# Altium footprint library L26.PcbLib: 12 footprints
Each footprint in its own frame and in the unit in brackets; x right, y up, seen from the top. Pads: shape width x height; smd on the part's side, far side on the other; paste and mask are expansions set on the pad; w line width, h text height; cw(c..) or ccw(c..) is an arc to the next point about the centre after c.
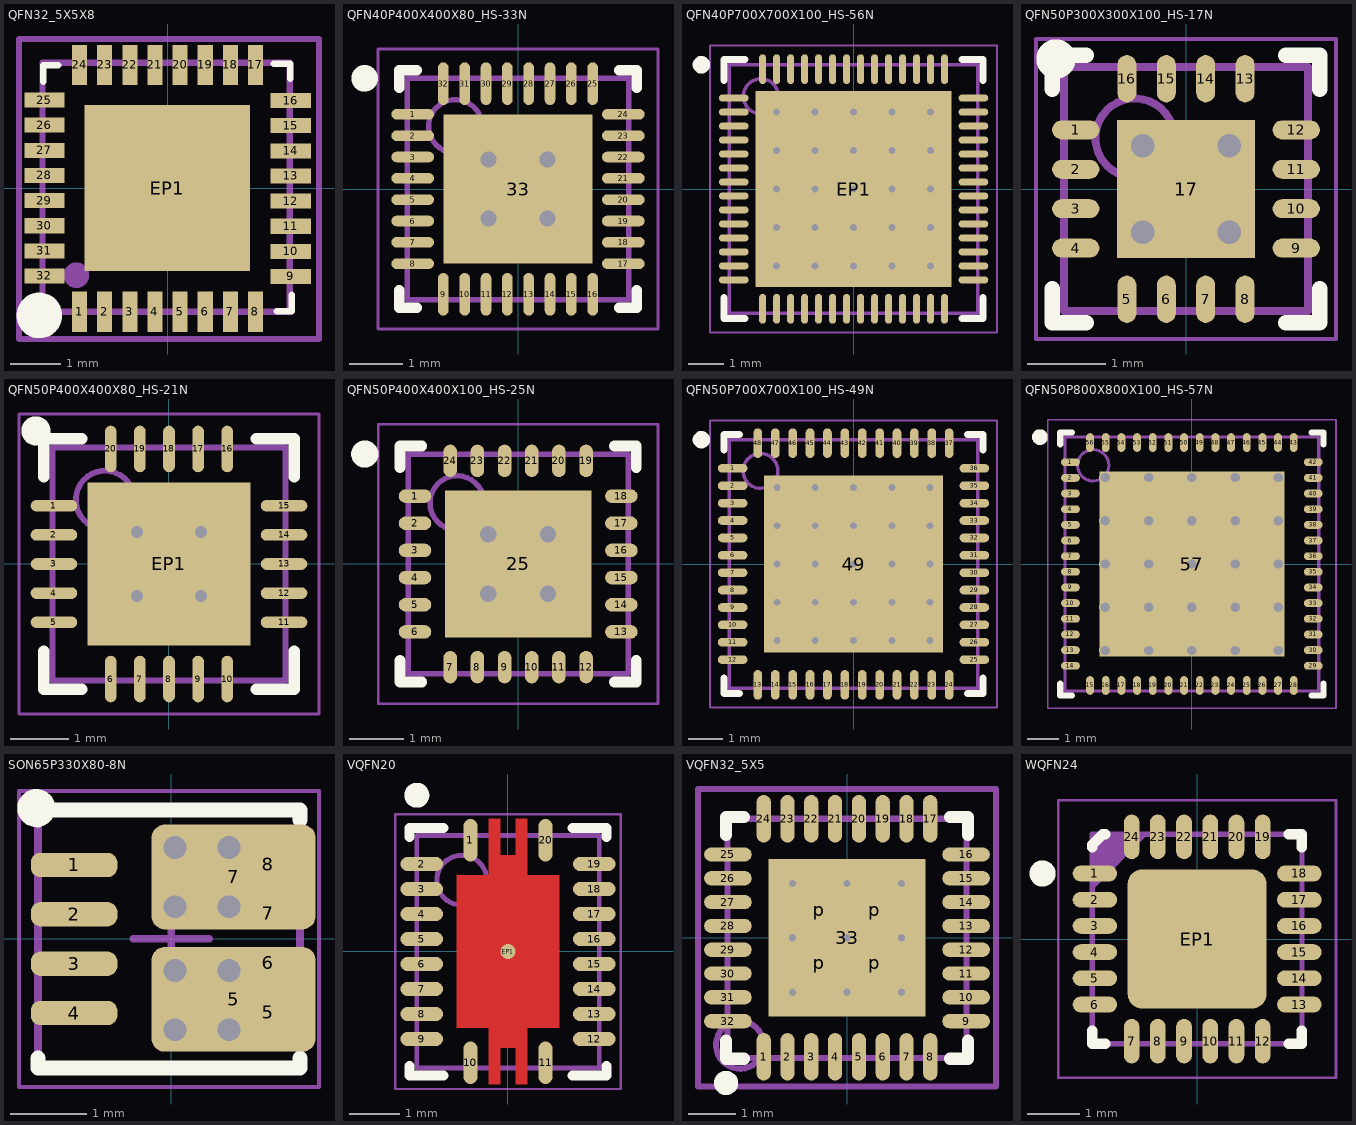
[diagram p0: the footprints below, top view; thin cyan lines are the x and y axes]

## QFN32_5X5X8 [mm]
pads (33):
  rect 0.3x0.8 smd: 1(-1.75,-2.455) 2(-1.25,-2.455) 3(-0.75,-2.455) 4(-0.25,-2.455) 5(0.25,-2.455) 6(0.75,-2.455) 7(1.25,-2.455) 8(1.75,-2.455) 17(1.75,2.455) 18(1.25,2.455) 19(0.75,2.455) 20(0.25,2.455) 21(-0.25,2.455) 22(-0.75,2.455) 23(-1.25,2.455) 24(-1.75,2.455)
  rect 0.8x0.3 smd: 9(2.45,-1.755) 10(2.45,-1.255) 11(2.45,-0.755) 12(2.45,-0.255) 13(2.45,0.245) 14(2.45,0.745) 15(2.45,1.245) 16(2.45,1.745) 25(-2.45,1.755) 26(-2.45,1.255) 27(-2.45,0.755) 28(-2.45,0.255) 29(-2.45,-0.245) 30(-2.45,-0.745) 31(-2.45,-1.245) 32(-2.45,-1.745)
  rect 3.3x3.3 smd paste-2.54: EP1(-0.004,0.003)
Top Overlay:
  circle w0.508: c-2.55,-2.53 r0.2
  lines w0.127: -2.475,2.12 -2.475,2.445 -2.175,2.445 ; 2.115,2.48 2.44,2.48 2.44,2.18 ; 2.175,-2.445 2.475,-2.445 2.475,-2.12
Top Paste:
  rectangle: -1.397,-1.27 -0.127,-0.127
  rectangle: 0.127,-1.27 1.397,-0.127
  rectangle: 0.127,0.127 1.397,1.27
  rectangle: -1.397,0.127 -0.127,1.27
Mechanical 13:
  circle w0.254: c-1.812,-1.729 r0.127
  lines w0.127: -2.487,2.498 2.428,2.498 2.428,-2.455 -2.487,-2.455 -2.487,2.498 ; -2.487,2.498 -2.487,2.498
Mechanical 15:
  lines w0.127: -0.381,0 0.381,0 ; 0,-0.381 0,0.381 ; -2.955,-2.999 3.014,-2.999 3.014,2.97 -2.955,2.97 -2.955,-2.999
Mechanical 17:
  text "'.Designator'" at -2.286,-1.27 h0.64
Mechanical 19:
  text "'.Comment'" at -2.286,-1.27 h0.64
3D body: height 0.89, standoff 0, extent -2.487,-2.455 2.428,2.498

## QFN40P400X400X80_HS-33N [mm] "QFN, 32-Leads, Body 4.00x4.00mm, Pitch 0.40mm, Thermal Pad 2.80x2.80mm, IPC Medium Density"
height 0.8
pads (33):
  oval 0.8x0.2 smd: 1(-1.975,1.4) 2(-1.975,1) 3(-1.975,0.6) 4(-1.975,0.2) 5(-1.975,-0.2) 6(-1.975,-0.6) 7(-1.975,-1) 8(-1.975,-1.4) 17(1.975,-1.4) 18(1.975,-1) 19(1.975,-0.6) 20(1.975,-0.2) 21(1.975,0.2) 22(1.975,0.6) 23(1.975,1) 24(1.975,1.4)
  oval 0.2x0.8 smd: 9(-1.4,-1.975) 10(-1,-1.975) 11(-0.6,-1.975) 12(-0.2,-1.975) 13(0.2,-1.975) 14(0.6,-1.975) 15(1,-1.975) 16(1.4,-1.975) 25(1.4,1.975) 26(1,1.975) 27(0.6,1.975) 28(0.2,1.975) 29(-0.2,1.975) 30(-0.6,1.975) 31(-1,1.975) 32(-1.4,1.975)
  rect 2.8x2.8 smd: 33(0,0)
via -0.55,0.55 diameter 0.6 hole 0.3
via 0.55,0.55 diameter 0.6 hole 0.3
via -0.55,-0.55 diameter 0.6 hole 0.3
via 0.55,-0.55 diameter 0.6 hole 0.3
Top Overlay:
  circle w0.25: c-2.875,2.075 r0.125
  lines w0.2: -2.225,-1.9 -2.225,-2.225 -1.9,-2.225 ; -2.225,1.9 -2.225,2.225 -1.9,2.225 ; 1.9,-2.225 2.225,-2.225 2.225,-1.9 ; 1.9,2.225 2.225,2.225 2.225,1.9
Mechanical 2:
  circle w0.1: c-1.175,1.175 r0.5
  lines w0.1: -2.075,-2.075 -2.075,2.075 2.075,2.075 2.075,-2.075 -2.075,-2.075
Mechanical 4:
  lines w0.05: -2.625,-2.625 -2.625,2.625 2.625,2.625 2.625,-2.625 -2.625,-2.625
  lines w0.1: -0.5,0 0.5,0 ; 0,-0.5 0,0.5
3D body "QFN40P400X400X80_HS-33N.step": height 0.8, standoff 0, extent -2.125,-2.125 2.125,2.125

## QFN40P700X700X100_HS-56N [mm] "QFN, 56-Leads, Body 7.00x7.00mm, Pitch 0.40mm, Thermal Pad 5.60x5.60mm, IPC Medium Density"
height 0.6
pads (57):
  oval 0.85x0.2 smd: 1(-3.425,2.6) 2(-3.425,2.2) 3(-3.425,1.8) 4(-3.425,1.4) 5(-3.425,1) 6(-3.425,0.6) 7(-3.425,0.2) 8(-3.425,-0.2) 9(-3.425,-0.6) 10(-3.425,-1) 11(-3.425,-1.4) 12(-3.425,-1.8) 13(-3.425,-2.2) 14(-3.425,-2.6) 29(3.425,-2.6) 30(3.425,-2.2) 31(3.425,-1.8) 32(3.425,-1.4) 33(3.425,-1) 34(3.425,-0.6) 35(3.425,-0.2) 36(3.425,0.2) 37(3.425,0.6) 38(3.425,1) 39(3.425,1.4) 40(3.425,1.8) 41(3.425,2.2) 42(3.425,2.6)
  oval 0.2x0.85 smd: 15(-2.6,-3.425) 16(-2.2,-3.425) 17(-1.8,-3.425) 18(-1.4,-3.425) 19(-1,-3.425) 20(-0.6,-3.425) 21(-0.2,-3.425) 22(0.2,-3.425) 23(0.6,-3.425) 24(1,-3.425) 25(1.4,-3.425) 26(1.8,-3.425) 27(2.2,-3.425) 28(2.6,-3.425) 43(2.6,3.425) 44(2.2,3.425) 45(1.8,3.425) 46(1.4,3.425) 47(1,3.425) 48(0.6,3.425) 49(0.2,3.425) 50(-0.2,3.425) 51(-0.6,3.425) 52(-1,3.425) 53(-1.4,3.425) 54(-1.8,3.425) 55(-2.2,3.425) 56(-2.6,3.425)
  rect 5.6x5.6 smd: EP1(0,0)
via 2.2,-2.2 diameter 0.5 hole 0.2
via 1.1,-2.2 diameter 0.5 hole 0.2
via 0,-2.2 diameter 0.5 hole 0.2
via -1.1,-2.2 diameter 0.5 hole 0.2
via -2.2,-2.2 diameter 0.5 hole 0.2
via 2.2,-1.1 diameter 0.5 hole 0.2
via 1.1,-1.1 diameter 0.5 hole 0.2
via 0,-1.1 diameter 0.5 hole 0.2
via -1.1,-1.1 diameter 0.5 hole 0.2
via -2.2,-1.1 diameter 0.5 hole 0.2
via 2.2,0 diameter 0.5 hole 0.2
via 1.1,0 diameter 0.5 hole 0.2
via 0,0 diameter 0.5 hole 0.2
via -1.1,0 diameter 0.5 hole 0.2
via -2.2,0 diameter 0.5 hole 0.2
via 2.2,1.1 diameter 0.5 hole 0.2
via 1.1,1.1 diameter 0.5 hole 0.2
via 0,1.1 diameter 0.5 hole 0.2
via -1.1,1.1 diameter 0.5 hole 0.2
via -2.2,1.1 diameter 0.5 hole 0.2
via 2.2,2.2 diameter 0.5 hole 0.2
via 1.1,2.2 diameter 0.5 hole 0.2
via 0,2.2 diameter 0.5 hole 0.2
via -1.1,2.2 diameter 0.5 hole 0.2
via -2.2,2.2 diameter 0.5 hole 0.2
Top Overlay:
  circle w0.25: c-4.35,3.55 r0.125
  lines w0.2: -3.7,-3.1 -3.7,-3.7 -3.1,-3.7 ; -3.7,3.1 -3.7,3.7 -3.1,3.7 ; 3.1,-3.7 3.7,-3.7 3.7,-3.1 ; 3.1,3.7 3.7,3.7 3.7,3.1
Mechanical 13:
  circle w0.1: c-2.65,2.65 r0.5
  lines w0.1: -3.55,-3.55 3.55,-3.55 3.55,3.55 -3.55,3.55 -3.55,-3.55
Mechanical 15:
  lines w0.05: -4.1,-4.1 4.1,-4.1 4.1,4.1 -4.1,4.1 -4.1,-4.1
  lines w0.1: -0.5,0 0.5,0 ; 0,-0.5 0,0.5
3D body: height 0.6, standoff 0.05, extent -3.55,-3.55 3.55,3.55

## QFN50P300X300X100_HS-17N [mm] "QFN, 16-Leads, Body 3.00x3.00mm, Pitch 0.50mm, Thermal Pad 1.75x1.75mm, IPC Medium Density"
height 1
pads (17):
  oval 0.6x0.24 smd: 1(-1.4,0.75) 2(-1.4,0.25) 3(-1.4,-0.25) 4(-1.4,-0.75) 9(1.4,-0.75) 10(1.4,-0.25) 11(1.4,0.25) 12(1.4,0.75)
  oval 0.24x0.6 smd: 5(-0.75,-1.4) 6(-0.25,-1.4) 7(0.25,-1.4) 8(0.75,-1.4) 13(0.75,1.4) 14(0.25,1.4) 15(-0.25,1.4) 16(-0.75,1.4)
  rect 1.75x1.75 smd: 17(0,0)
via 0.55,-0.55 diameter 0.6 hole 0.3
via -0.55,-0.55 diameter 0.6 hole 0.3
via 0.55,0.55 diameter 0.6 hole 0.3
via -0.55,0.55 diameter 0.6 hole 0.3
Top Overlay:
  circle w0.25: c-1.651,1.651 r0.125
  lines w0.2: -1.7,-1.27 -1.7,-1.7 -1.27,-1.7 ; -1.7,1.27 -1.7,1.7 -1.27,1.7 ; 1.27,-1.7 1.7,-1.7 1.7,-1.27 ; 1.27,1.7 1.7,1.7 1.7,1.27
Mechanical 13:
  circle w0.1: c-0.65,0.65 r0.5
  lines w0.1: -1.55,-1.55 1.55,-1.55 1.55,1.55 -1.55,1.55 -1.55,-1.55
  text "'.Designator'" at -1.4,-0.25 h0.25
Mechanical 15:
  lines w0.05: -1.905,-1.905 1.905,-1.905 1.905,1.905 -1.905,1.905 -1.905,-1.905
  lines w0.1: -0.5,0 0.5,0 ; 0,-0.5 0,0.5
3D body "QFN50P300X300X100_HS-17N.step": height 1, standoff 0, extent -1.6,-1.6 1.6,1.6

## QFN50P400X400X80_HS-21N [mm] "QFN, 20-Leads, Body 4.00x4.00mm, Pitch 0.50mm, Thermal Pad 2.80x2.80mm, IPC Medium Density"
height 0.8
pads (21):
  oval 0.8x0.2 smd: 1(-1.975,1) 2(-1.975,0.5) 3(-1.975,0) 4(-1.975,-0.5) 5(-1.975,-1) 11(1.975,-1) 12(1.975,-0.5) 13(1.975,0) 14(1.975,0.5) 15(1.975,1)
  oval 0.2x0.8 smd: 6(-1,-1.975) 7(-0.5,-1.975) 8(0,-1.975) 9(0.5,-1.975) 10(1,-1.975) 16(1,1.975) 17(0.5,1.975) 18(0,1.975) 19(-0.5,1.975) 20(-1,1.975)
  rect 2.8x2.8 smd: EP1(0,0)
via 0.55,-0.55 diameter 0.5 hole 0.2
via -0.55,-0.55 diameter 0.5 hole 0.2
via 0.55,0.55 diameter 0.5 hole 0.2
via -0.55,0.55 diameter 0.5 hole 0.2
Top Overlay:
  circle w0.25: c-2.286,2.286 r0.125
  lines w0.2: -2.15,-1.5 -2.15,-2.15 -1.5,-2.15 ; -2.15,1.5 -2.15,2.15 -1.5,2.15 ; 1.5,-2.15 2.15,-2.15 2.15,-1.5 ; 1.5,2.15 2.15,2.15 2.15,1.5
Mechanical 13:
  circle w0.1: c-1.1,1.1 r0.5
  lines w0.1: -2,-2 2,-2 2,2 -2,2 -2,-2
Mechanical 15:
  lines w0.05: -2.575,-2.575 2.575,-2.575 2.575,2.575 -2.575,2.575 -2.575,-2.575
  lines w0.1: -0.5,0 0.5,0 ; 0,-0.5 0,0.5
3D body "QFN50P400X400X80_HS-21N.step": height 0.8, standoff 0, extent -2.05,-2.05 2.05,2.05

## QFN50P400X400X100_HS-25N [mm] "QFN, 24-Leads, Body 4.00x4.00mm, Pitch 0.50mm, Thermal Pad 2.70x2.70mm, IPC Medium Density"
height 1
pads (25):
  oval 0.6x0.25 smd: 1(-1.9,1.25) 2(-1.9,0.75) 3(-1.9,0.25) 4(-1.9,-0.25) 5(-1.9,-0.75) 6(-1.9,-1.25) 13(1.9,-1.25) 14(1.9,-0.75) 15(1.9,-0.25) 16(1.9,0.25) 17(1.9,0.75) 18(1.9,1.25)
  oval 0.25x0.6 smd: 7(-1.25,-1.9) 8(-0.75,-1.9) 9(-0.25,-1.9) 10(0.25,-1.9) 11(0.75,-1.9) 12(1.25,-1.9) 19(1.25,1.9) 20(0.75,1.9) 21(0.25,1.9) 22(-0.25,1.9) 23(-0.75,1.9) 24(-1.25,1.9)
  rect 2.7x2.7 smd: 25(0,0)
via 0.55,-0.55 diameter 0.6 hole 0.3
via -0.55,-0.55 diameter 0.6 hole 0.3
via 0.55,0.55 diameter 0.6 hole 0.3
via -0.55,0.55 diameter 0.6 hole 0.3
Top Overlay:
  circle w0.25: c-2.825,2.025 r0.125
  lines w0.2: -2.175,-1.775 -2.175,-2.175 -1.775,-2.175 ; -2.175,1.775 -2.175,2.175 -1.775,2.175 ; 1.775,-2.175 2.175,-2.175 2.175,-1.775 ; 1.775,2.175 2.175,2.175 2.175,1.775
Mechanical 2:
  circle w0.1: c-1.125,1.125 r0.5
  lines w0.1: -2.025,-2.025 2.025,-2.025 2.025,2.025 -2.025,2.025 -2.025,-2.025
Mechanical 4:
  lines w0.05: -2.575,-2.575 2.575,-2.575 2.575,2.575 -2.575,2.575 -2.575,-2.575
  lines w0.1: -0.5,0 0.5,0 ; 0,-0.5 0,0.5
3D body "QFN50P400X400X100_HS-25N.step": height 1, standoff 0, extent -2.075,-2.075 2.075,2.075

## QFN50P700X700X100_HS-49N [mm] "QFN, 48-Leads, Body 7.00x7.00mm, Pitch 0.50mm, Thermal Pad 5.15x5.10mm, IPC Medium Density"
height 1
pads (49):
  oval 0.85x0.25 smd mask+0.07: 1(-3.475,2.75) 2(-3.475,2.25) 3(-3.475,1.75) 4(-3.475,1.25) 5(-3.475,0.75) 6(-3.475,0.25) 7(-3.475,-0.25) 8(-3.475,-0.75) 9(-3.475,-1.25) 10(-3.475,-1.75) 11(-3.475,-2.25) 12(-3.475,-2.75) 25(3.475,-2.75) 26(3.475,-2.25) 27(3.475,-1.75) 28(3.475,-1.25) 29(3.475,-0.75) 30(3.475,-0.25) 31(3.475,0.25) 32(3.475,0.75) 33(3.475,1.25) 34(3.475,1.75) 35(3.475,2.25) 36(3.475,2.75)
  oval 0.25x0.85 smd mask+0.07: 13(-2.75,-3.475) 14(-2.25,-3.475) 15(-1.75,-3.475) 16(-1.25,-3.475) 17(-0.75,-3.475) 18(-0.25,-3.475) 19(0.25,-3.475) 20(0.75,-3.475) 21(1.25,-3.475) 22(1.75,-3.475) 23(2.25,-3.475) 24(2.75,-3.475) 37(2.75,3.475) 38(2.25,3.475) 39(1.75,3.475) 40(1.25,3.475) 41(0.75,3.475) 42(0.25,3.475) 43(-0.25,3.475) 44(-0.75,3.475) 45(-1.25,3.475) 46(-1.75,3.475) 47(-2.25,3.475) 48(-2.75,3.475)
  rect 5.15x5.1 smd paste-4 mask+0.07: 49(0,0)
via 2.2,-2.2 diameter 0.5 hole 0.2
via 1.1,-2.2 diameter 0.5 hole 0.2
via 0,-2.2 diameter 0.5 hole 0.2
via -1.1,-2.2 diameter 0.5 hole 0.2
via -2.2,-2.2 diameter 0.5 hole 0.2
via 2.2,-1.1 diameter 0.5 hole 0.2
via 1.1,-1.1 diameter 0.5 hole 0.2
via 0,-1.1 diameter 0.5 hole 0.2
via -1.1,-1.1 diameter 0.5 hole 0.2
via -2.2,-1.1 diameter 0.5 hole 0.2
via 2.2,0 diameter 0.5 hole 0.2
via 1.1,0 diameter 0.5 hole 0.2
via 0,0 diameter 0.5 hole 0.2
via -1.1,0 diameter 0.5 hole 0.2
via -2.2,0 diameter 0.5 hole 0.2
via 2.2,1.1 diameter 0.5 hole 0.2
via 1.1,1.1 diameter 0.5 hole 0.2
via 0,1.1 diameter 0.5 hole 0.2
via -1.1,1.1 diameter 0.5 hole 0.2
via -2.2,1.1 diameter 0.5 hole 0.2
via 2.2,2.2 diameter 0.5 hole 0.2
via 1.1,2.2 diameter 0.5 hole 0.2
via 0,2.2 diameter 0.5 hole 0.2
via -1.1,2.2 diameter 0.5 hole 0.2
via -2.2,2.2 diameter 0.5 hole 0.2
Top Overlay:
  circle w0.25: c-4.375,3.575 r0.125
  lines w0.2: -3.725,-3.275 -3.725,-3.725 -3.275,-3.725 ; -3.725,3.275 -3.725,3.725 -3.275,3.725 ; 3.275,-3.725 3.725,-3.725 3.725,-3.275 ; 3.275,3.725 3.725,3.725 3.725,3.275
Top Paste:
  region: 0.725,-1.025 -0.725,-1.025 -0.725,-2.475 0.725,-2.475
  region: 1.025,0.725 1.025,-0.725 2.475,-0.725 2.475,0.725
  region: -1.025,-0.725 -1.025,0.725 -2.475,0.725 -2.475,-0.725
  region: -1.025,1.025 -1.025,2.475 -2.475,2.475 -2.475,1.025
  region: 1.025,-1.025 1.025,-2.475 2.475,-2.475 2.475,-1.025
  region: -1.025,-1.025 -2.475,-1.025 -2.475,-2.475 -1.025,-2.475
  rectangle: -0.725,-0.725 0.725,0.725
  rectangle: -0.725,1.025 0.725,2.475
  rectangle: 1.025,1.025 2.475,2.475
Mechanical 13:
  circle w0.1: c-2.675,2.675 r0.5
  lines w0.1: -3.575,-3.575 3.575,-3.575 3.575,3.575 -3.575,3.575 -3.575,-3.575
Mechanical 15:
  lines w0.05: -4.125,-4.125 4.125,-4.125 4.125,4.125 -4.125,4.125 -4.125,-4.125
  lines w0.1: -0.5,0 0.5,0 ; 0,-0.5 0,0.5
3D body "QFN50P700X700X100_HS-49N.step": height 1, standoff 0, extent -3.655,-3.655 3.655,3.655

## QFN50P800X800X100_HS-57N [mm] "QFN, 56-Leads, Body 8.00x8.00mm, Pitch 0.50mm, Thermal Pad 5.90x5.90mm, IPC Medium Density"
height 1
pads (57):
  oval 0.6x0.25 smd paste+0 mask+0.07: 1(-3.875,3.25) 2(-3.875,2.75) 3(-3.875,2.25) 4(-3.875,1.75) 5(-3.875,1.25) 6(-3.875,0.75) 7(-3.875,0.25) 8(-3.875,-0.25) 9(-3.875,-0.75) 10(-3.875,-1.25) 11(-3.875,-1.75) 12(-3.875,-2.25) 13(-3.875,-2.75) 14(-3.875,-3.25) 29(3.875,-3.25) 30(3.875,-2.75) 31(3.875,-2.25) 32(3.875,-1.75) 33(3.875,-1.25) 34(3.875,-0.75) 35(3.875,-0.25) 36(3.875,0.25) 37(3.875,0.75) 38(3.875,1.25) 39(3.875,1.75) 40(3.875,2.25) 41(3.875,2.75) 42(3.875,3.25)
  oval 0.25x0.6 smd paste+0 mask+0.07: 15(-3.25,-3.875) 16(-2.75,-3.875) 17(-2.25,-3.875) 18(-1.75,-3.875) 19(-1.25,-3.875) 20(-0.75,-3.875) 21(-0.25,-3.875) 22(0.25,-3.875) 23(0.75,-3.875) 24(1.25,-3.875) 25(1.75,-3.875) 26(2.25,-3.875) 27(2.75,-3.875) 28(3.25,-3.875) 43(3.25,3.875) 44(2.75,3.875) 45(2.25,3.875) 46(1.75,3.875) 47(1.25,3.875) 48(0.75,3.875) 49(0.25,3.875) 50(-0.25,3.875) 51(-0.75,3.875) 52(-1.25,3.875) 53(-1.75,3.875) 54(-2.25,3.875) 55(-2.75,3.875) 56(-3.25,3.875)
  rect 5.9x5.9 smd paste-10 mask-10: 57(0,0)
via -2.76,2.76 diameter 0.4 hole 0.3
via 2.76,2.76 diameter 0.4 hole 0.3
via 2.76,-2.76 diameter 0.4 hole 0.3
via -2.76,-2.76 diameter 0.4 hole 0.3
via 1.38,-2.76 diameter 0.4 hole 0.3
via 0,-2.76 diameter 0.4 hole 0.3
via -1.38,-2.76 diameter 0.4 hole 0.3
via 2.76,-1.38 diameter 0.4 hole 0.3
via 1.38,-1.38 diameter 0.4 hole 0.3
via 0,-1.38 diameter 0.4 hole 0.3
via -1.38,-1.38 diameter 0.4 hole 0.3
via -2.76,-1.38 diameter 0.4 hole 0.3
via 2.76,0 diameter 0.4 hole 0.3
via 1.38,0 diameter 0.4 hole 0.3
via 0,0 diameter 0.4 hole 0.3
via -1.38,0 diameter 0.4 hole 0.3
via -2.76,0 diameter 0.4 hole 0.3
via 2.76,1.38 diameter 0.4 hole 0.3
via 1.38,1.38 diameter 0.4 hole 0.3
via 0,1.38 diameter 0.4 hole 0.3
via -1.38,1.38 diameter 0.4 hole 0.3
via -2.76,1.38 diameter 0.4 hole 0.3
via 1.38,2.76 diameter 0.4 hole 0.3
via 0,2.76 diameter 0.4 hole 0.3
via -1.38,2.76 diameter 0.4 hole 0.3
Top Overlay:
  circle w0.25: c-4.85,4.05 r0.125
  lines w0.2: -4.2,-3.825 -4.2,-4.2 -3.825,-4.2 ; -4.2,3.825 -4.2,4.2 -3.825,4.2 ; 3.825,-4.2 4.2,-4.2 4.2,-3.825 ; 3.825,4.2 4.2,4.2 4.2,3.825
Top Paste:
  rectangle: -2.66,1.48 -1.48,2.66
  rectangle: -1.28,1.48 -0.1,2.66
  rectangle: 0.1,1.48 1.28,2.66
  rectangle: 1.48,1.48 2.66,2.66
  rectangle: 1.48,0.1 2.66,1.28
  rectangle: 0.1,0.1 1.28,1.28
  rectangle: -1.28,0.1 -0.1,1.28
  rectangle: -2.66,0.1 -1.48,1.28
  rectangle: 1.48,-1.28 2.66,-0.1
  rectangle: 0.1,-1.28 1.28,-0.1
  rectangle: -1.28,-1.28 -0.1,-0.1
  rectangle: -2.66,-1.28 -1.48,-0.1
  rectangle: 1.48,-2.66 2.66,-1.48
  rectangle: 0.1,-2.66 1.28,-1.48
  rectangle: -1.28,-2.66 -0.1,-1.48
  rectangle: -2.66,-2.66 -1.48,-1.48
Top Solder:
  rectangle: -2.96,-2.96 2.96,2.96
Mechanical 2:
  circle w0.1: c-3.15,3.15 r0.5
  lines w0.1: -4.05,-4.05 4.05,-4.05 4.05,4.05 -4.05,4.05 -4.05,-4.05
Mechanical 4:
  lines w0.05: -4.6,-4.6 4.6,-4.6 4.6,4.6 -4.6,4.6 -4.6,-4.6
  lines w0.1: -0.5,0 0.5,0 ; 0,-0.5 0,0.5
3D body "QFN50P800X800X100_HS-57N.step": height 1, standoff 0, extent -4.1,-4.1 4.1,4.1

## SON65P330X80-8N [mm] "SON, 8-Leads, Body 3.30x3.30mm, Pitch 0.65mm, IPC Medium Density"
height 0.8
pads (10):
  rrect80% 1.14x0.32 smd mask+0: 1(-1.28,0.97) 2(-1.28,0.32) 3(-1.28,-0.33) 4(-1.28,-0.98)
  rrect25% 2.16x1.38 smd paste-100 mask-100: 5(0.82,-0.8) 7(0.82,0.811)
  rrect50% 1.14x0.32 smd mask-100: 5(1.28,-0.969) 6(1.28,-0.319) 7(1.28,0.331) 8(1.28,0.981)
via 0.05,-0.42 diameter 0.5 hole 0.3
via 0.05,-1.2 diameter 0.5 hole 0.3
via 0.76,-0.42 diameter 0.5 hole 0.3
via 0.76,-1.2 diameter 0.5 hole 0.3
via 0.76,1.2 diameter 0.5 hole 0.3
via 0.76,0.42 diameter 0.5 hole 0.3
via 0.05,1.2 diameter 0.5 hole 0.3
via 0.05,0.42 diameter 0.5 hole 0.3
Top Layer:
  region: -0.08,-1.17
  region: -0.08,1.17
Top Overlay:
  circle w0.25: c-1.776,1.717 r0.125
  lines w0.2: -1.755,-1.575 -1.755,-1.706 1.687,-1.706 ; -1.755,1.565 -1.755,1.695 1.695,1.695 ; 0.24,-1.706 1.695,-1.706 1.695,-1.575 ; 0.24,1.695 1.695,1.695 ; 1.695,1.565 1.695,1.695
Top Solder:
  region: -0.21,-1.4 -0.21,-1.41 -0.202,-1.428 -0.188,-1.442 -0.17,-1.45 -0.16,-1.45 1.4,-1.45 1.41,-1.45 1.428,-1.442 1.442,-1.428 1.45,-1.41 1.45,-1.4 1.45,-1.19 1.451,-1.18 1.458,-1.162 1.472,-1.148 1.49,-1.141 1.5,-1.14 1.8,-1.14 1.81,-1.14 1.828,-1.132 1.842,-1.118 1.85,-1.1 1.85,-1.09 1.85,-0.87 1.85,-0.86 1.842,-0.842 1.828,-0.828 1.81,-0.82 1.8,-0.82 1.5,-0.82 1.49,-0.819 1.472,-0.812 1.458,-0.798 1.451,-0.78 1.45,-0.77 1.45,-0.54 1.451,-0.53 1.458,-0.512 1.472,-0.498 1.49,-0.491 1.5,-0.49 1.8,-0.49 1.81,-0.49 1.828,-0.482 1.842,-0.468 1.85,-0.45 1.85,-0.44 1.85,-0.22 1.85,-0.21 1.842,-0.192 1.828,-0.178 1.81,-0.17 1.8,-0.17 -0.16,-0.17 -0.17,-0.17 -0.188,-0.178 -0.202,-0.192 -0.21,-0.21 -0.21,-0.22
  region: -0.21,1.4 -0.21,1.41 -0.202,1.428 -0.188,1.442 -0.17,1.45 -0.16,1.45 1.4,1.45 1.41,1.45 1.428,1.442 1.442,1.428 1.45,1.41 1.45,1.4 1.45,1.19 1.451,1.18 1.458,1.162 1.472,1.148 1.49,1.141 1.5,1.14 1.8,1.14 1.81,1.14 1.828,1.132 1.842,1.118 1.85,1.1 1.85,1.09 1.85,0.87 1.85,0.86 1.842,0.842 1.828,0.828 1.81,0.82 1.8,0.82 1.5,0.82 1.49,0.819 1.472,0.812 1.458,0.798 1.451,0.78 1.45,0.77 1.45,0.54 1.451,0.53 1.458,0.512 1.472,0.498 1.49,0.491 1.5,0.49 1.8,0.49 1.81,0.49 1.828,0.482 1.842,0.468 1.85,0.45 1.85,0.44 1.85,0.22 1.85,0.21 1.842,0.192 1.828,0.178 1.81,0.17 1.8,0.17 -0.16,0.17 -0.17,0.17 -0.188,0.178 -0.202,0.192 -0.21,0.21 -0.21,0.22
  lines w0.01: 1.45,0.49 1.45,0.82
Mechanical 2:
  circle w0.1: c0.795,0.795 r0.5
  lines w0.1: -1.755,-1.706 -1.755,1.695 1.695,1.695 1.695,-1.706 -1.755,-1.706
Mechanical 4:
  lines w0.05: -2.005,-1.956 -2.005,1.944 1.945,1.944 1.945,-1.956 -2.005,-1.956
  lines w0.1: -0.5,0 0.5,0 ; 0,-0.5 0,0.5
3D body "User Library-TDFN-8-EP_3x3mm.step": height -1.7, standoff -2.7, extent -1.68,-1.68 1.68,1.68

## VQFN20 [mm]
pads (21):
  oval 0.28x0.85 smd paste-0.025 mask+0.07: 1(-0.75,2.225) 10(-0.75,-2.225)
  oval 0.85x0.28 smd paste-0.025 mask+0.07: 2(-1.725,1.75) 3(-1.725,1.25) 8(-1.725,-1.25) 13(1.725,-1.25) 17(1.725,0.75) 18(1.725,1.25) 19(1.725,1.75)
  oval 0.85x0.28 smd paste-0.025 mask+0: 4(-1.725,0.75) 5(-1.725,0.25) 6(-1.725,-0.25) 7(-1.725,-0.75) 9(-1.725,-1.75) 12(1.725,-1.75) 14(1.725,-0.75) 15(1.725,-0.25) 16(1.725,0.25)
  oval 0.28x0.85 smd paste-0.025 mask+0: 11(0.75,-2.225) 20(0.75,2.225)
  round 0.3 smd paste-0.15 mask+0: EP1(0,0)
Top Layer:
  region: 0.16,2.65 0.16,1.925 -0.16,1.925 -0.16,2.65 -0.39,2.65 -0.39,1.525 -1.025,1.525 -1.025,-1.525 -0.39,-1.525 -0.39,-2.65 -0.16,-2.65 -0.16,-1.925 0.16,-1.925 0.16,-2.65 0.39,-2.65 0.39,-1.525 1.025,-1.525 1.025,1.525 0.39,1.525 0.39,2.65
Top Overlay:
  circle w0.25: c-1.825,3.125 r0.125
  lines w0.2: -1.975,-2.29 -1.975,-2.475 -1.29,-2.475 ; -1.975,2.29 -1.975,2.475 -1.29,2.475 ; 1.29,-2.475 1.975,-2.475 1.975,-2.29 ; 1.29,2.475 1.975,2.475 1.975,2.29
Top Paste:
  region: 0.15,1.47 0.15,0.15 0.97,0.15 0.97,1.47
  region: 0.97,-1.47 0.97,-0.15 0.15,-0.15 0.15,-1.47
  region: -0.15,-1.47 -0.15,-0.15 -0.97,-0.15 -0.97,-1.47
  region: -0.97,1.47 -0.97,0.15 -0.15,0.15 -0.15,1.47
  region: 0.39,-2.625 0.39,-1.725 0.16,-1.725 0.16,-2.625
  region: 0.16,2.625 0.16,1.725 0.39,1.725 0.39,2.625
  region: -0.16,-2.625 -0.16,-1.725 -0.39,-1.725 -0.39,-2.625
  region: -0.39,2.625 -0.39,1.725 -0.16,1.725 -0.16,2.625
Mechanical 14:
  circle w0.1: c-0.925,1.425 r0.5
  lines w0.1: -1.825,-2.325 -1.825,2.325 1.825,2.325 1.825,-2.325 -1.825,-2.325
Mechanical 15:
  lines w0.05: -2.25,-2.75 -2.25,2.75 2.25,2.75 2.25,-2.75 -2.25,-2.75
  lines w0.1: -0.5,0 0.5,0 ; 0,-0.5 0,0.5
3D body "User Library-20-VQFN (3_5x4_5)-2.STEP": height 0.85, standoff -0.05, extent -1.76,-2.26 1.76,2.26

## VQFN32_5X5 [mm]
pads (37):
  oval 0.3x1 smd: 1(-1.75,-2.5) 2(-1.25,-2.5) 3(-0.75,-2.5) 4(-0.25,-2.5) 5(0.25,-2.5) 6(0.75,-2.5) 7(1.25,-2.5) 8(1.75,-2.5) 17(1.75,2.5) 18(1.25,2.5) 19(0.75,2.5) 20(0.25,2.5) 21(-0.25,2.5) 22(-0.75,2.5) 23(-1.25,2.5) 24(-1.75,2.5)
  oval 1x0.3 smd: 9(2.5,-1.75) 10(2.5,-1.25) 11(2.5,-0.75) 12(2.5,-0.25) 13(2.5,0.25) 14(2.5,0.75) 15(2.5,1.25) 16(2.5,1.75) 25(-2.5,1.75) 26(-2.5,1.25) 27(-2.5,0.75) 28(-2.5,0.25) 29(-2.5,-0.25) 30(-2.5,-0.75) 31(-2.5,-1.25) 32(-2.5,-1.75)
  rect 3.3x3.3 smd paste-3.302: 33(0,0)
  rect 0.762x0.762 on Top Paste: p(-0.584,-0.559) p(-0.584,0.559) p(0.584,-0.559) p(0.584,0.559)
via 0,0 diameter 0.508 hole 0.15
via 0,1.143 diameter 0.508 hole 0.15
via 1.143,1.143 diameter 0.508 hole 0.15
via 1.143,-1.143 diameter 0.508 hole 0.15
via 0,-1.143 diameter 0.508 hole 0.15
via -1.143,-1.143 diameter 0.508 hole 0.15
via -1.143,0 diameter 0.508 hole 0.15
via -1.143,1.143 diameter 0.508 hole 0.15
via 1.143,0 diameter 0.508 hole 0.15
Top Overlay:
  circle w0.254: c-2.54,-3.048 r0.127
  lines w0.254: -2.54,-2.159 -2.54,-2.54 -2.159,-2.54 ; -2.54,2.159 -2.54,2.54 -2.159,2.54 ; 2.159,-2.54 2.54,-2.54 2.54,-2.159 ; 2.159,2.54 2.54,2.54 2.54,2.159
Mechanical 13:
  lines w0.127: -2.51,-2.52 2.51,-2.52 2.51,2.5 -2.51,2.5 -2.51,-2.52
Mechanical 15:
  circle w0.127: c-2.25,-2.25 r0.5
  lines w0.127: -3.125,-3.125 -3.125,3.125 3.125,3.125 3.125,-3.125 -3.125,-3.125
Mechanical 17:
  text ".Designator" at -1.875,-0.5 h1.02
Mechanical 19:
  text "'.Comment'" at -2.794,-0.508 h1.27
3D body "User Library-qfn32-5x5.step": height 0.8, standoff 0, extent -2.51,-2.52 2.51,2.5

## WQFN24 [mm]
pads (25):
  oval 0.85x0.3 smd mask+0: 1(-1.95,1.25) 13(1.95,-1.25) 14(1.95,-0.75) 15(1.95,-0.25) 16(1.95,0.25) 17(1.95,0.75) 18(1.95,1.25)
  oval 0.85x0.3 smd mask+0.05: 2(-1.95,0.75) 3(-1.95,0.25) 4(-1.95,-0.25) 5(-1.95,-0.75) 6(-1.95,-1.25)
  oval 0.3x0.85 smd mask+0.05: 7(-1.25,-1.95) 10(0.25,-1.95) 11(0.75,-1.95) 12(1.25,-1.95) 21(0.25,1.95) 22(-0.25,1.95) 24(-1.25,1.95)
  oval 0.3x0.85 smd mask+0: 8(-0.75,-1.95) 9(-0.25,-1.95) 19(1.25,1.95) 20(0.75,1.95) 23(-0.75,1.95)
  rrect20% 2.65x2.65 smd mask+0.05: EP1(0,0)
Top Overlay:
  circle w0.25: c-2.95,1.25 r0.125
  lines w0.2: -2,-1.75 -2,-2 -1.75,-2 ; -2,1.75 -2,1.8 -1.8,2 -1.75,2 ; 1.75,-2 2,-2 2,-1.75 ; 1.75,2 2,2 2,1.75
Mechanical 14:
  lines w0.1: -2,1 -1,2 ; -2,1.1 -1.1,2 ; -2,1.2 -1.2,2 ; -2,1.3 -1.3,2 ; -2,1.4 -1.4,2 ; -2,1.5 -1.5,2 ; -2,1.6 -1.6,2 ; -2,1.7 -1.7,2 ; -2,1.8 -1.8,2 ; -2,1.9 -1.9,2 ; -2,-2 2,-2 2,2 -2,2 -2,-2
Mechanical 15:
  circle w0.05: c0,0 r0.35
  lines w0.05: -0.5,0 0.5,0 ; 0,-0.5 0,0.5 ; -2.65,-2.65 2.65,-2.65 2.65,2.65 -2.65,2.65 -2.65,-2.65
3D body "QFN50P400X400X80-25N-S265.stp": height 0.8, standoff 0, extent -2.075,-2.075 2.075,2.075